# Altium schematic symbol library ANT_RFID_13.56MHz.A1.SchLib: 1 symbol
Pins are listed as number, name and electrical type; pins without a type are passive.

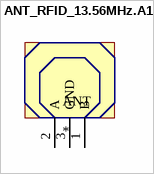
[diagram p0: symbol ANT_RFID_13.56MHz.A1]

## ANT_RFID_13.56MHz.A1
designator ANT
pins: 1 B, 2 A, 3 GND